# EAGLE library part TPS61085 (library custom)
Boost Converter Voltage Regulator Adjustable 2.3-6V In 18.5V Out Max 2A 0.65/1.2MHz
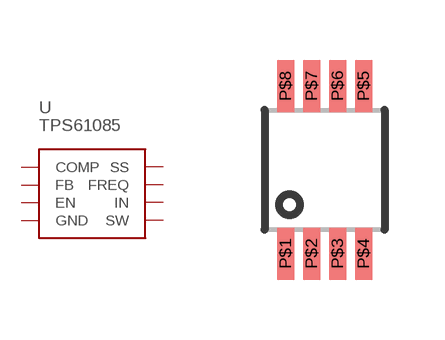
[diagram p43: symbol with the pads of 8-MSOP; footprint 8-MSOP]

Designator prefix U

## TPS61085  [8-MSOP]
P$1  COMP
P$2  FB
P$3  EN
P$4  GND
P$5  SW
P$6  IN
P$7  FREQ
P$8  SS

## Footprint 8-MSOP (pad centres in mm)
smd 0.425 x 1.3: P$1 -0.975,-2.1; P$2 -0.325,-2.1; P$3 0.325,-2.1; P$4 0.975,-2.1; P$5 0.975,2.1; P$6 0.325,2.1; P$7 -0.325,2.1; P$8 -0.975,2.1